# Altium footprint library CN_JACK_PHONO_LUMBERG_1503_13.PcbLib: 1 footprints
Each footprint in its own frame and in the unit in brackets; x right, y up, seen from the top. Pads: shape width x height; smd on the part's side, far side on the other; paste and mask are expansions set on the pad; w line width, h text height; cw(c..) or ccw(c..) is an arc to the next point about the centre after c.
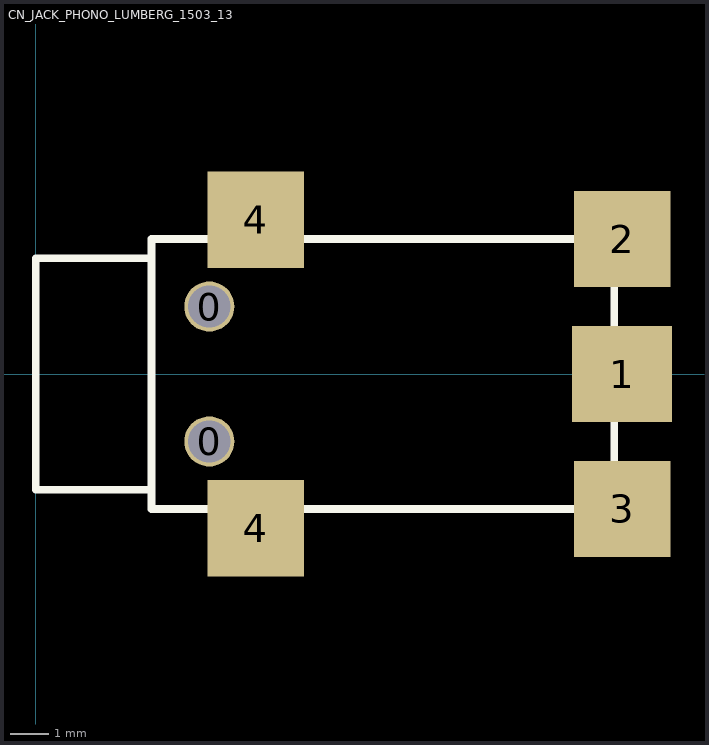
[diagram p0: the footprint, top view; thin cyan lines are the x and y axes]

## CN_JACK_PHONO_LUMBERG_1503_13 [mm] "Lumberg 1503 13 VP3, 3.5mm, 4pin"
pads (7):
  round 1.3 hole 1.1: 0(4.5,-1.75) 0(4.5,1.75)
  rect 2.6x2.5 smd: 1(15.2,0)
  rect 2.5x2.5 smd: 2(15.2,3.5) 3(15.2,-3.5) 4(5.7,-4) 4(5.7,4)
Top Overlay:
  lines w0.203: 3,-3 0,-3 0,3 3,3 ; 3,-3.5 3,3.5 15,3.5 15,-3.5 3,-3.5
3D body: height 6, standoff 0, extent 3,-3.5 15,3.5
3D body: height 5.98, standoff 0, extent 0,-2.994 3,2.994